# EAGLE library part USB3076-30-A (library USB3076-30-A)
USB - micro B USB 2.0 Receptacle Connector 5 Position Surface Mount, Right Angle; Through Hole Source: Datasheet <https://gct.co/connector/usb3076>
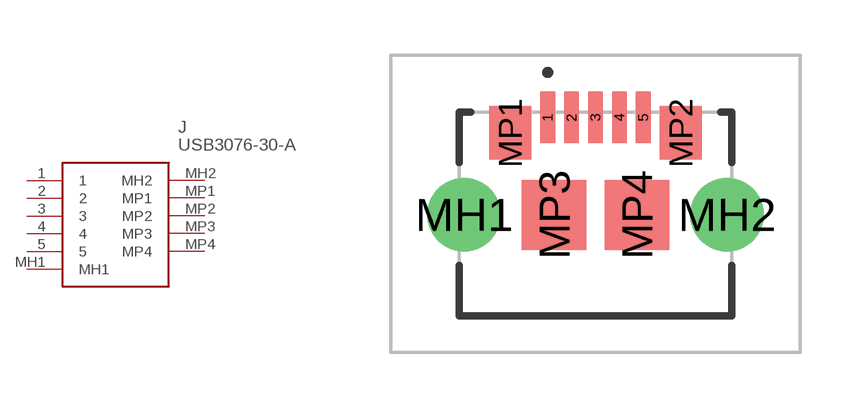
[diagram p0: symbol with the pads of USB307630A; footprint USB307630A]

Designator prefix J

## USB3076-30-A (Description: USB - micro B USB 2.0 Receptacle Connector 5 Position Surface Mount, Right Angle; Through Hole; Height: 2.86mm; Manufacturer_Name: GCT (GLOBAL CONNECTOR TECHNOLOGY); Manufacturer_Part_Number: USB3076-30-A; Mouser_Part_Number: 640-USB3076-30-A; Mouser_Price-Stock: https://www.mouser.co.uk/ProductDetail/GCT/USB3076-30-A?qs=KUoIvG%2F9IlZs3NcnVJVajg%3D%3D)  [USB307630A]
1  1
2  2
3  3
4  4
5  5
MH1  MH1
MH2  MH2
MP1  MP1
MP2  MP2
MP3  MP3
MP4  MP4

## Footprint USB307630A (pad centres in mm)
USB3076-30-A-2
smd 0.4 x 1.4: 1 -1.3,2.625; 2 -0.65,2.625; 3 0,2.625; 4 0.65,2.625; 5 1.3,2.625
drill 1.33 pad 1.995: MH1 -3.575,-0.025; MH2 3.575,-0.025
smd 1.15 x 1.45: MP1 -2.32,2.205; MP2 2.32,2.205
smd 1.75 x 1.9: MP3 -1.125,-0.025; MP4 1.125,-0.025